# EAGLE library part RJLD-260TC1 (library myparts)
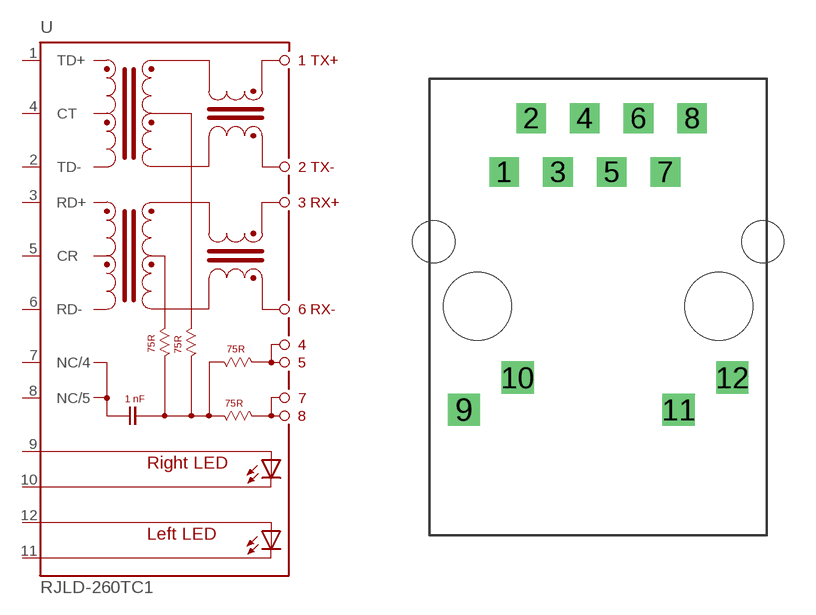
[diagram p11: symbol with the pads of RJLD-260TC1; footprint RJLD-260TC1]

Designator prefix -

## RJLD-260TC1  [RJLD-260TC1]
1  TD+  in
2  TD-  in
3  RD+  in
4  CT  in
5  CR  in
6  RD-  in
7  NC/4  in
8  NC/5  in
9  A-R  pas
10  C-R  pas
11  C-L  pas
12  AL  pas

## Footprint RJLD-260TC1 (pad centres in mm)
drill 0.9 square: 1 3.345,3.3; 2 4.615,5.84; 3 5.885,3.3; 4 7.155,5.84; 5 8.425,3.3; 6 9.695,5.84; 7 10.965,3.3; 8 12.235,5.84
drill 1.02 square: 9 1.44,-7.95; 10 3.98,-6.43; 11 11.6,-7.95; 12 14.14,-6.43
hole 2 at 0,0
hole 2 at 15.58,0
hole 3.2 at 2.075,-3.05
hole 3.2 at 13.505,-3.05